# EAGLE library part NHD-C0216CIZ-FSW (library dtb)
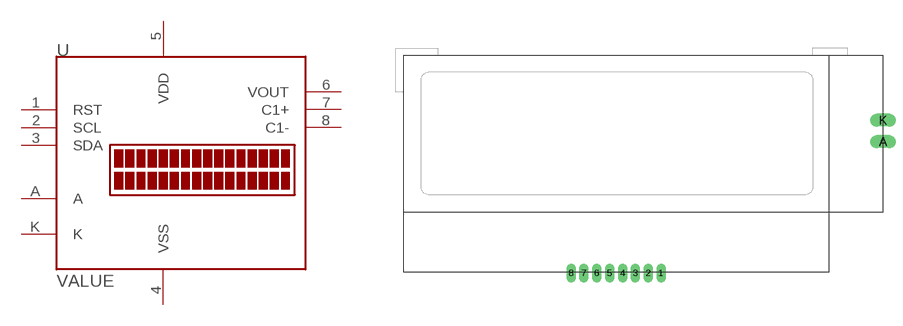
[diagram p7: symbol with the pads of NHD-C0216CIZ-FSW; footprint NHD-C0216CIZ-FSW]

Designator prefix -

## NHD-C0216CIZ-FSW  [NHD-C0216CIZ-FSW]
1  RST  in
2  SCL  in
3  SDA
4  VSS  pwr
5  VDD  pwr
6  VOUT
7  C1+
8  C1-
A  A  pas
K  K  pas

## Footprint NHD-C0216CIZ-FSW (pad centres in mm)
drill 0.6 long: 1 30.1,-0.1; 2 28.6,-0.1; 3 27.1,-0.1; 4 25.6,-0.1; 5 24.1,-0.1; 6 22.6,-0.1; 7 21.1,-0.1; 8 19.6,-0.1
drill 1 pad 1.27 long: A 56,15.24; K 56,17.74